# Altium footprint library drac_v31.PcbLib: 45 footprints (part 2 of 3)
Each footprint in its own frame and in the unit in brackets; x right, y up, seen from the top. Pads: shape width x height; smd on the part's side, far side on the other; paste and mask are expansions set on the pad; w line width, h text height; cw(c..) or ccw(c..) is an arc to the next point about the centre after c.
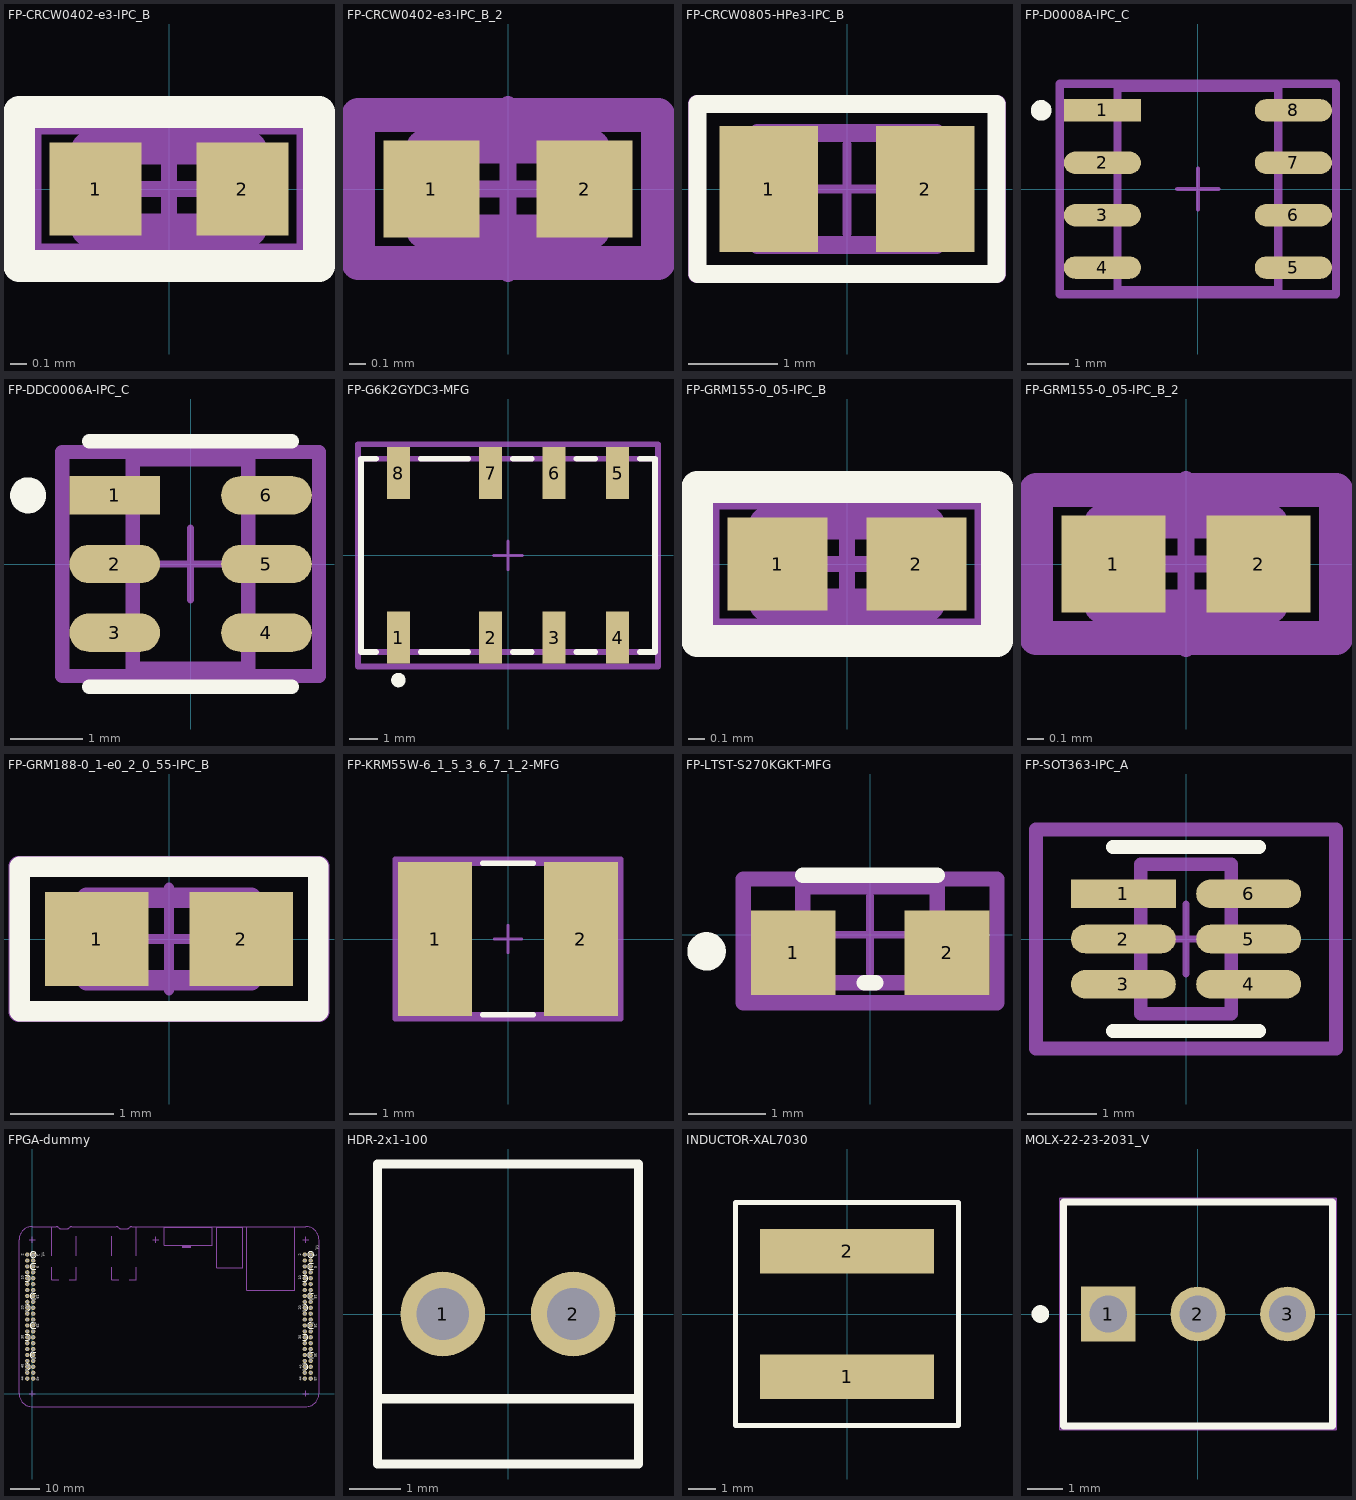
[diagram p1: the footprints below, top view; thin cyan lines are the x and y axes]

## FP-CRCW0402-e3-IPC_B [mm]
pads (2):
  rect 0.568x0.572 smd paste+0 mask+0: 1(-0.452,0) 2(0.452,0)
Top Overlay:
  lines w0.2: -0.925,-0.475 -0.925,0.475 0.925,0.475 0.925,-0.475 -0.925,-0.475
Top Assembly:
  lines w0.2: -0.886,-0.436 0.886,-0.436 0.886,0.436 -0.886,0.436 -0.886,-0.436
  text ".Designator" at 0,0.188 h1
Top 3D Body:
  lines w0.2: -0.5,-0.25 0.5,-0.25 0.5,0.25 -0.5,0.25 -0.5,-0.25
Top Courtyard:
  lines w0.2: -0.886,-0.436 0.886,-0.436 0.886,0.436 -0.886,0.436 -0.886,-0.436
Top Component Center:
  lines w0.1: -0.5,0 0.5,0 ; 0,-0.5 0,0.5
3D body "Res_Vishay_CRCW04021K00FKED_eec.STEP": height 0.25, standoff 0, extent -0.886,-0.436 0.886,0.436

## FP-CRCW0402-e3-IPC_B_2 [mm]
pads (2):
  rect 0.568x0.572 smd paste+0 mask+0: 1(-0.452,0) 2(0.452,0)
Top Assembly:
  lines w0.2: -0.886,-0.436 0.886,-0.436 0.886,0.436 -0.886,0.436 -0.886,-0.436
  text ".Designator" at 0,0.188 h1
Top 3D Body:
  lines w0.2: -0.5,-0.25 0.5,-0.25 0.5,0.25 -0.5,0.25 -0.5,-0.25
Top Courtyard:
  lines w0.2: -0.886,-0.436 0.886,-0.436 0.886,0.436 -0.886,0.436 -0.886,-0.436
Top Component Center:
  lines w0.1: -0.5,0 0.5,0 ; 0,-0.5 0,0.5
3D body "Res_Vishay_CRCW04021K00FKED_eec.STEP": height 0.25, standoff 0, extent -0.886,-0.436 0.886,0.436

## FP-CRCW0805-HPe3-IPC_B [mm]
pads (2):
  rect 1.106x1.408 smd paste+0 mask+0: 1(-0.876,0) 2(0.876,0)
Top Overlay:
  lines w0.2: -1.675,-0.95 1.675,-0.95 1.675,0.95 -1.675,0.95 -1.675,-0.95
Top Assembly:
  lines w0.2: -1.679,-0.954 -1.679,0.954 1.679,0.954 1.679,-0.954 -1.679,-0.954
  text ".Designator" at 0,0.188 h1
Top 3D Body:
  lines w0.2: -1,-0.625 -1,0.625 1,0.625 1,-0.625 -1,-0.625
Top Courtyard:
  lines w0.2: -1.679,-0.954 -1.679,0.954 1.679,0.954 1.679,-0.954 -1.679,-0.954
Top Component Center:
  lines w0.1: -0.5,0 0.5,0 ; 0,-0.5 0,0.5
3D body "Res_Vishay_CRCW08053R00FKEAHP_eec.STEP": height 0.6, standoff 0, extent -1,-0.625 1,0.625

## FP-D0008A-IPC_C [mm]
pads (8):
  rect 1.869x0.542 smd paste+0 mask+0: 1(-2.314,1.905)
  rrect100% 1.869x0.542 smd paste+0 mask+0: 2(-2.314,0.635) 3(-2.314,-0.635) 4(-2.314,-1.905) 5(2.314,-1.905) 6(2.314,-0.635) 7(2.314,0.635) 8(2.314,1.905)
Top Overlay:
  circle w0.25: c-3.798,1.905 r0.125
Top Assembly:
  lines w0.2: -3.348,-2.552 3.348,-2.552 3.348,2.552 -3.348,2.552 -3.348,-2.552
  text ".Designator" at 0,0.188 h1
Top 3D Body:
  lines w0.2: -1.947,-2.452 1.947,-2.452 1.947,2.452 -1.947,2.452 -1.947,-2.452
Top Courtyard:
  lines w0.2: -3.348,-2.552 3.348,-2.552 3.348,2.552 -3.348,2.552 -3.348,-2.552
Top Component Center:
  lines w0.1: -0.5,0 0.5,0 ; 0,-0.5 0,0.5
3D body "IC_Texas_Instruments_ISO7220ADR_eec.STEP": height 0.25, standoff 0, extent -3.348,-2.552 3.348,2.552

## FP-DDC0006A-IPC_C [mm]
pads (6):
  rect 1.254x0.532 smd paste+0 mask+0: 1(-1.05,0.95)
  rrect100% 1.254x0.532 smd paste+0 mask+0: 2(-1.05,0) 3(-1.05,-0.95) 4(1.05,-0.95) 5(1.05,0) 6(1.05,0.95)
Top Overlay:
  circle w0.25: c-2.25,0.95 r0.125
  lines w0.2: -1.4,-1.7 1.4,-1.7 ; -1.4,1.7 1.4,1.7
Top Assembly:
  lines w0.2: -1.777,-1.55 1.777,-1.55 1.777,1.55 -1.777,1.55 -1.777,-1.55
  text ".Designator" at 0,0.188 h1
Top 3D Body:
  lines w0.2: -0.8,-1.45 0.8,-1.45 0.8,1.45 -0.8,1.45 -0.8,-1.45
Top Courtyard:
  lines w0.2: -1.777,-1.55 1.777,-1.55 1.777,1.55 -1.777,1.55 -1.777,-1.55
Top Component Center:
  lines w0.1: -0.5,0 0.5,0 ; 0,-0.5 0,0.5
3D body "IC_Texas_Instruments_TPS562201DDCT_eec.STEP": height 0.25, standoff 0, extent -1.777,-1.55 1.777,1.55

## FP-G6K2GYDC3-MFG [mm]
pads (8):
  rect 0.8x1.8 smd paste+0 mask+0: 1(-3.8,-2.85) 2(-0.6,-2.85) 3(1.6,-2.85) 4(3.8,-2.85) 5(3.8,2.85) 6(1.6,2.85) 7(-0.6,2.85) 8(-3.8,2.85)
Top Overlay:
  circle w0.25: c-3.8,-4.325 r0.125
  lines w0.2: -4.575,-3.35 -5.1,-3.35 -5.1,3.35 -4.575,3.35 ; -3.025,-3.35 -1.375,-3.35 ; -3.025,3.35 -1.375,3.35 ; 0.175,-3.35 0.825,-3.35 ; 0.175,3.35 0.825,3.35 ; 2.375,-3.35 3.025,-3.35 ; 2.375,3.35 3.025,3.35 ; 4.575,-3.35 5.1,-3.35 5.1,3.35 4.575,3.35
Top Assembly:
  lines w0.2: -5.2,-3.85 5.2,-3.85 5.2,3.85 -5.2,3.85 -5.2,-3.85
  text ".Designator" at 0,-0.001 h1
Top 3D Body:
  lines w0.2: -5.1,-3.35 5.1,-3.35 5.1,3.35 -5.1,3.35 -5.1,-3.35
Top Courtyard:
  lines w0.2: -5.2,-3.85 5.2,-3.85 5.2,3.85 -5.2,3.85 -5.2,-3.85
Top Component Center:
  lines w0.1: -0.5,0 0.5,0 ; 0,-0.5 0,0.5
3D body "Relay_Omron_G6K2GYDC3_eec.STEP": height 0.25, standoff 0, extent -5.2,-3.85 5.2,3.85

## FP-GRM155-0_05-IPC_B [mm]
pads (2):
  rect 0.615x0.572 smd paste+0 mask+0: 1(-0.429,0) 2(0.429,0)
Top Overlay:
  lines w0.2: -0.925,-0.475 -0.925,0.475 0.925,0.475 0.925,-0.475 -0.925,-0.475
Top Assembly:
  lines w0.2: -0.886,-0.436 -0.886,0.436 0.886,0.436 0.886,-0.436 -0.886,-0.436
  text ".Designator" at 0,0.188 h1
Top 3D Body:
  lines w0.2: -0.5,-0.25 0.5,-0.25 0.5,0.25 -0.5,0.25 -0.5,-0.25
Top Courtyard:
  lines w0.2: -0.886,-0.436 0.886,-0.436 0.886,0.436 -0.886,0.436 -0.886,-0.436
Top Component Center:
  lines w0.1: -0.5,0 0.5,0 ; 0,-0.5 0,0.5
3D body "Cap_Murata_GRM1552C1H271GA01J_eec.STEP": height 0.25, standoff 0, extent -0.886,-0.436 0.886,0.436

## FP-GRM155-0_05-IPC_B_2 [mm]
pads (2):
  rect 0.615x0.572 smd paste+0 mask+0: 1(-0.429,0) 2(0.429,0)
Top Assembly:
  lines w0.2: -0.886,-0.436 0.886,-0.436 0.886,0.436 -0.886,0.436 -0.886,-0.436
  text ".Designator" at 0,0.188 h1
Top 3D Body:
  lines w0.2: -0.5,-0.25 0.5,-0.25 0.5,0.25 -0.5,0.25 -0.5,-0.25
Top Courtyard:
  lines w0.2: -0.886,-0.436 0.886,-0.436 0.886,0.436 -0.886,0.436 -0.886,-0.436
Top Component Center:
  lines w0.1: -0.5,0 0.5,0 ; 0,-0.5 0,0.5
3D body "Cap_Murata_GRM1552C1H271GA01J_eec.STEP": height 0.25, standoff 0, extent -0.886,-0.436 0.886,0.436

## FP-GRM188-0_1-e0_2_0_55-IPC_B [mm]
pads (2):
  rect 1.008x0.912 smd paste+0 mask+0: 1(-0.702,0) 2(0.702,0)
Top Overlay:
  lines w0.2: -1.45,-0.7 1.45,-0.7 1.45,0.7 -1.45,0.7 -1.45,-0.7
Top Assembly:
  lines w0.2: -1.456,-0.706 1.456,-0.706 1.456,0.706 -1.456,0.706 -1.456,-0.706
  text ".Designator" at 0,0.188 h1
Top 3D Body:
  lines w0.2: -0.8,-0.4 0.8,-0.4 0.8,0.4 -0.8,0.4 -0.8,-0.4
Top Courtyard:
  lines w0.2: -1.456,-0.706 1.456,-0.706 1.456,0.706 -1.456,0.706 -1.456,-0.706
Top Component Center:
  lines w0.1: -0.5,0 0.5,0 ; 0,-0.5 0,0.5
3D body "Cap_Murata_GRM188R60J106KE47D_eec.STEP": height 0.25, standoff 0, extent -1.456,-0.706 1.456,0.706

## FP-KRM55W-6_1_5_3_6_7_1_2-MFG [mm]
pads (2):
  rect 2.7x5.6 smd paste+0 mask+0: 1(-2.65,0) 2(2.65,0)
Top Overlay:
  lines w0.2: -0.925,-2.75 0.925,-2.75 ; -0.925,2.75 0.925,2.75
Top Assembly:
  lines w0.2: -4.1,-2.9 4.1,-2.9 4.1,2.9 -4.1,2.9 -4.1,-2.9
  text ".Designator" at 0,0.188 h1
Top 3D Body:
  lines w0.2: -3.25,-2.75 3.25,-2.75 3.25,2.75 -3.25,2.75 -3.25,-2.75
Top Courtyard:
  lines w0.2: -4.1,-2.9 4.1,-2.9 4.1,2.9 -4.1,2.9 -4.1,-2.9
Top Component Center:
  lines w0.1: -0.5,0 0.5,0 ; 0,-0.5 0,0.5
3D body "Cap_Murata_KRM55WR72A226MH01L_eec.STEP": height 0.25, standoff 0, extent -4.1,-2.9 4.1,2.9

## FP-LTST-S270KGKT-MFG [mm]
pads (2):
  rect 1.1x1.1 smd paste+0 mask+0: 1(-1,-0.235) 2(1,-0.235)
Top Overlay:
  circle w0.25: c-2.125,-0.215 r0.125
  lines w0.2: -0.875,0.775 0.875,0.775 ; -0.075,-0.625 0.075,-0.625
Top Assembly:
  lines w0.2: -1.65,-0.885 1.65,-0.885 1.65,0.725 -1.65,0.725 -1.65,-0.885
  text ".Designator" at 0,-0.081 h1
Top 3D Body:
  lines w0.2: -0.875,-0.625 0.875,-0.625 0.875,0.625 -0.875,0.625 -0.875,-0.625
Top Courtyard:
  lines w0.2: -1.65,-0.885 1.65,-0.885 1.65,0.725 -1.65,0.725 -1.65,-0.885
Top Component Center:
  lines w0.1: -0.5,0 0.5,0 ; 0,-0.5 0,0.5
3D body "Diode_Lite-On_LTST-S270KGKT_eec.STEP": height 0.6, standoff 0, extent -0.825,-0.485 0.825,0.665

## FP-SOT363-IPC_A [mm]
pads (6):
  rect 1.51x0.412 smd paste+0 mask+0: 1(-0.901,0.65)
  rrect100% 1.51x0.412 smd paste+0 mask+0: 2(-0.901,0) 3(-0.901,-0.65) 4(0.901,-0.65) 5(0.901,0) 6(0.901,0.65)
Top Overlay:
  lines w0.2: -1.05,-1.325 1.05,-1.325 ; -1.05,1.325 1.05,1.325
Top Assembly:
  lines w0.2: -2.156,-1.575 2.156,-1.575 2.156,1.575 -2.156,1.575 -2.156,-1.575
  text ".Designator" at 0,0.188 h1
Top 3D Body:
  lines w0.2: -0.65,-1.075 0.65,-1.075 0.65,1.075 -0.65,1.075 -0.65,-1.075
Top Courtyard:
  lines w0.2: -2.156,-1.575 2.156,-1.575 2.156,1.575 -2.156,1.575 -2.156,-1.575
Top Component Center:
  lines w0.1: -0.5,0 0.5,0 ; 0,-0.5 0,0.5
3D body "Trans_Diodes_BSS8402DW-7-F_eec.STEP": height 0.25, standoff 0, extent -2.156,-1.575 2.156,1.575

## FPGA-dummy [mil]
pads (88):
  round 57 / inner round 52 / far side round 57 hole 32: 1(14.37,1851.77) 2(-64.37,1851.77) 3(14.37,1773.03) 4(-64.37,1773.03) 5(14.37,1694.29) 6(-64.37,1694.29) 7(14.37,1615.55) 8(-64.37,1615.55) 9(14.37,1536.81) 10(-64.37,1536.81) 11(14.37,1458.07) 12(-64.37,1458.07) 13(14.37,1379.33) 14(-64.37,1379.33) 15(14.37,1300.59) 16(-64.37,1300.59) 17(14.37,1221.85) 18(-64.37,1221.85) 19(14.37,1143.11) 20(-64.37,1143.11) 21(14.37,1064.37) 22(-64.37,1064.37) 23(14.37,985.63) 24(-64.37,985.63) 25(14.37,906.89) 26(-64.37,906.89) 27(14.37,828.15) 28(-64.37,828.15) 29(14.37,749.41) 30(-64.37,749.41) 31(14.37,670.67) 32(-64.37,670.67) 33(14.37,591.93) 34(-64.37,591.93) 35(14.37,513.19) 36(-64.37,513.19) 37(14.37,434.45) 38(-64.37,434.45) 39(14.37,355.71) 40(-64.37,355.71) 41(14.37,276.97) 42(-64.37,276.97) 43(14.37,198.23) 44(-64.37,198.23) 45(3714.37,1851.77) 46(3635.63,1851.77) 47(3714.37,1773.03) 48(3635.63,1773.03) 49(3714.37,1694.29) 50(3635.63,1694.29) 51(3714.37,1615.55) 52(3635.63,1615.55) 53(3714.37,1536.81) 54(3635.63,1536.81) 55(3714.37,1458.07) 56(3635.63,1458.07) 57(3714.37,1379.33) 58(3635.63,1379.33) 59(3714.37,1300.59) 60(3635.63,1300.59) 61(3714.37,1221.85) 62(3635.63,1221.85) 63(3714.37,1143.11) 64(3635.63,1143.11) 65(3714.37,1064.37) 66(3635.63,1064.37) 67(3714.37,985.63) 68(3635.63,985.63) 69(3714.37,906.89) 70(3635.63,906.89) 71(3714.37,828.15) 72(3635.63,828.15) 73(3714.37,749.41) 74(3635.63,749.41) 75(3714.37,670.67) 76(3635.63,670.67) 77(3714.37,591.93) 78(3635.63,591.93) 79(3714.37,513.19) 80(3635.63,513.19) 81(3714.37,434.45) 82(3635.63,434.45) 83(3714.37,355.71) 84(3635.63,355.71) 85(3714.37,276.97) 86(3635.63,276.97) 87(3714.37,198.23) 88(3635.63,198.23)
Top Overlay:
  circle w7: c3714.37,1851.77 r39.37
  circle w7: c14.37,1851.77 r39.37
  lines w7: -95,316.34 -64.37,316.34 ccw(c-64.37,355.71) -64.37,395.08 -95,395.08 ; -95,710.04 -64.37,710.04 ccw(c-64.37,749.41) -64.37,788.78 -95,788.78 ; -95,1103.74 -64.37,1103.74 ccw(c-64.37,1143.11) -64.37,1182.48 -95,1182.48 ; -95,1497.44 -64.37,1497.44 ccw(c-64.37,1536.81) -64.37,1576.18 -95,1576.18 ; 45,473.82 14.37,473.82 cw(c14.37,513.19) 14.37,552.56 45,552.56 ; 45,867.52 14.37,867.52 cw(c14.37,906.89) 14.37,946.26 45,946.26 ; 45,1261.22 14.37,1261.22 cw(c14.37,1300.59) 14.37,1339.96 45,1339.96 ; 45,1654.92 14.37,1654.92 cw(c14.37,1694.29) 14.37,1733.66 45,1733.66 ; 3605,316.34 3635.63,316.34 ccw(c3635.63,355.71) 3635.63,395.08 3605,395.08 ; 3605,710.04 3635.63,710.04 ccw(c3635.63,749.41) 3635.63,788.78 3605,788.78 ; 3605,1103.74 3635.63,1103.74 ccw(c3635.63,1143.11) 3635.63,1182.48 3605,1182.48 ; 3605,1497.44 3635.63,1497.44 ccw(c3635.63,1536.81) 3635.63,1576.18 3605,1576.18 ; 3745,473.82 3714.37,473.82 cw(c3714.37,513.19) 3714.37,552.56 3745,552.56 ; 3745,867.52 3714.37,867.52 cw(c3714.37,906.89) 3714.37,946.26 3745,946.26 ; 3745,1261.22 3714.37,1261.22 cw(c3714.37,1300.59) 3714.37,1339.96 3745,1339.96 ; 3745,1654.92 3714.37,1654.92 cw(c3714.37,1694.29) 3714.37,1733.66 3745,1733.66
  text "5" at 60,1700 h32
  text "15" at 60,1320 h32
  text "25" at 60,930 h32
  text "10" at -110,1520 h32
  text "20" at -110,1120 h32
  text "30" at -110,725 h32
  text "40" at -110,335 h32
  text "2" at -110,1840 h32
  text "1" at 70,1860 h32
  text "2" at 3590,1840 h32
  text "40" at 3592.5,330 h28
  text "30" at 3590,725 h32
  text "20" at 3590,1120 h32
  text "1" at 3770,1860 h32
  text "35" at 3760,535 h32
  text "25" at 3760,930 h32
  text "15" at 3760,1320 h32
  text "5" at 3760,1700 h32
  text "10" at 3590,1513.7 h32
  text "43" at 60,222.5 h32
  text "44" at -110,170 h32
  text "44" at 3592.5,170 h32
  text "43" at 3760,222.5 h32
  text "J1" at 130.71,1836.02 h39.37
  text "J2" at 3782.28,1927.95 h39.37
Bottom Overlay:
  lines w7: -25,1891.14 -25,1812.4 53.74,1812.4 ; 3675,1891.14 3675,1812.4 3753.74,1812.4 ; -103.74,158.86 53.74,158.86 53.74,1891.14 -103.74,1891.14 -103.74,158.86 ; 3596.26,158.86 3596.26,1891.14 3753.74,1891.14 3753.74,158.86 3596.26,158.86
  text "J1" at 174.02,1837.99 h39.37
  text "J2" at 3821.65,1927.95 h39.37
Mechanical 1:
  rectangle: 2000,1940 2120,1975
  lines w3.94: -39.37,0 39.37,0 ; -39.37,2050 39.37,2050 ; 0,-39.37 0,39.37 ; 0,2010.63 0,2089.37 ; 1610.63,2050 1689.37,2050 ; 1650,2010.63 1650,2089.37 ; 3610.63,0 3689.37,0 ; 3610.63,2050 3689.37,2050 ; 3650,-39.37 3650,39.37 ; 3650,2010.63 3650,2089.37
  lines w5: -175,0 ccw(c0,0) 0,-175 3650,-175 ccw(c3650,0) 3825,0 3825,2050 ccw(c3650,2050) 3650,2225 1330,2225 ccw(c1330,2175.5) 1295,2210.5 cw(c1260,2245.5) 1260,2196 1190,2196 cw(c1190,2245.5) 1155,2210.5 ccw(c1120,2175.5) 1120,2225 530,2225 ccw(c530,2175.5) 495,2210.5 cw(c460,2245.5) 460,2196 390,2196 cw(c390,2245.5) 355,2210.5 ccw(c320,2175.5) 320,2225 0,2225 ccw(c0,2050) -175,2050 -175,0
  lines w7: 260,1685 260,1515 355,1515 ; 260,1840 260,2215 ; 495,1515 590,1515 590,1685 ; 590,1840 590,2100 ; 1060,1685 1060,1515 1155,1515 ; 1060,1840 1060,2100 ; 1295,1515 1390,1515 1390,1685 ; 1390,1840 1390,2215 ; 1760,1975 1760,2215 2400,2215 2400,1975 1760,1975 ; 2860,1375 3500,1375 3500,1620 3500,2225 2860,2225 2860,1620 2860,1375
  lines w7.87: 2462.84,1680 2740,1680 2810,1680 2810,2215 2462.84,2215 2462.84,1709.53 2462.84,1680
3D body "62004421121 (rev1).stp": height 236.22, standoff -106.3, extent 3595.67,158.47 3753.15,1890.75
3D body "62004421121 (rev1).stp": height 236.22, standoff -106.3, extent -104.33,158.47 53.15,1890.75

## HDR-2x1-100 [mil]
pads (2):
  round 65 / inner round 60 / far side round 75 hole 40: 1(-50,0) 2(50,0)
Top Overlay:
  lines w7: -100,-65 100,-65 ; -100,-115 100,-115 100,115 -100,115 -100,-115
Bottom Overlay:
  lines w7: -88.3,-32.14 ccw(c-50,0) -75,43.3
Mechanical 2:
  lines w4: -100,-65 100,-65 ; -100,-115 -100,115 100,115 100,-115 -100,-115
3D body "c-640454-2-aa-3d.stp": height 397.24, standoff -137.8, extent -100,-125.2 100,100

## INDUCTOR-XAL7030 [mil] "Coilcraft: XAL7030"
height 60
pads (2):
  rect 250x64 smd mask+3: 1(0,-90) 2(0,90)
Top Overlay:
  lines w7: -160,-160 160,-160 160,160 -160,160 -160,-160
Mechanical 2:
  lines w4: -160,-160 160,-160 160,160 -160,160 -160,-160
3D body: height 122.05, standoff 0, extent -157.48,-157.48 157.48,157.48

## MOLX-22-23-2031_V [mm] "CONN, 3-Leads, Body 7.62x6.35mm, Pitch 2.54mm"
height 8.18
pads (3):
  rect 1.55x1.55 hole 1.05: 1(-2.54,0)
  round 1.55 hole 1.05: 2(0,0) 3(2.54,0)
Top Overlay:
  circle w0.25: c-4.46,0 r0.125
  lines w0.2: -3.81,-3.175 -3.81,3.175 3.81,3.175 3.81,-3.175 -3.81,-3.175
Top 3D Body:
  lines w0.1: -3.81,-3.175 3.81,-3.175 3.81,3.175 -3.81,3.175 -3.81,-3.175
Top Courtyard:
  lines w0.05: -3.91,-3.275 3.91,-3.275 3.91,3.275 -3.91,3.275 -3.91,-3.275
  lines w0.1: -0.5,0 0.5,0 ; 0,-0.5 0,0.5
3D body "022232031.stp": height 10.67, standoff -3.56, extent -3.734,-3.251 3.734,3.099